# Altium footprint library 智能家居.PcbLib: 48 footprints (part 2 of 3)
Each footprint in its own frame and in the unit in brackets; x right, y up, seen from the top. Pads: shape width x height; smd on the part's side, far side on the other; paste and mask are expansions set on the pad; w line width, h text height; cw(c..) or ccw(c..) is an arc to the next point about the centre after c.
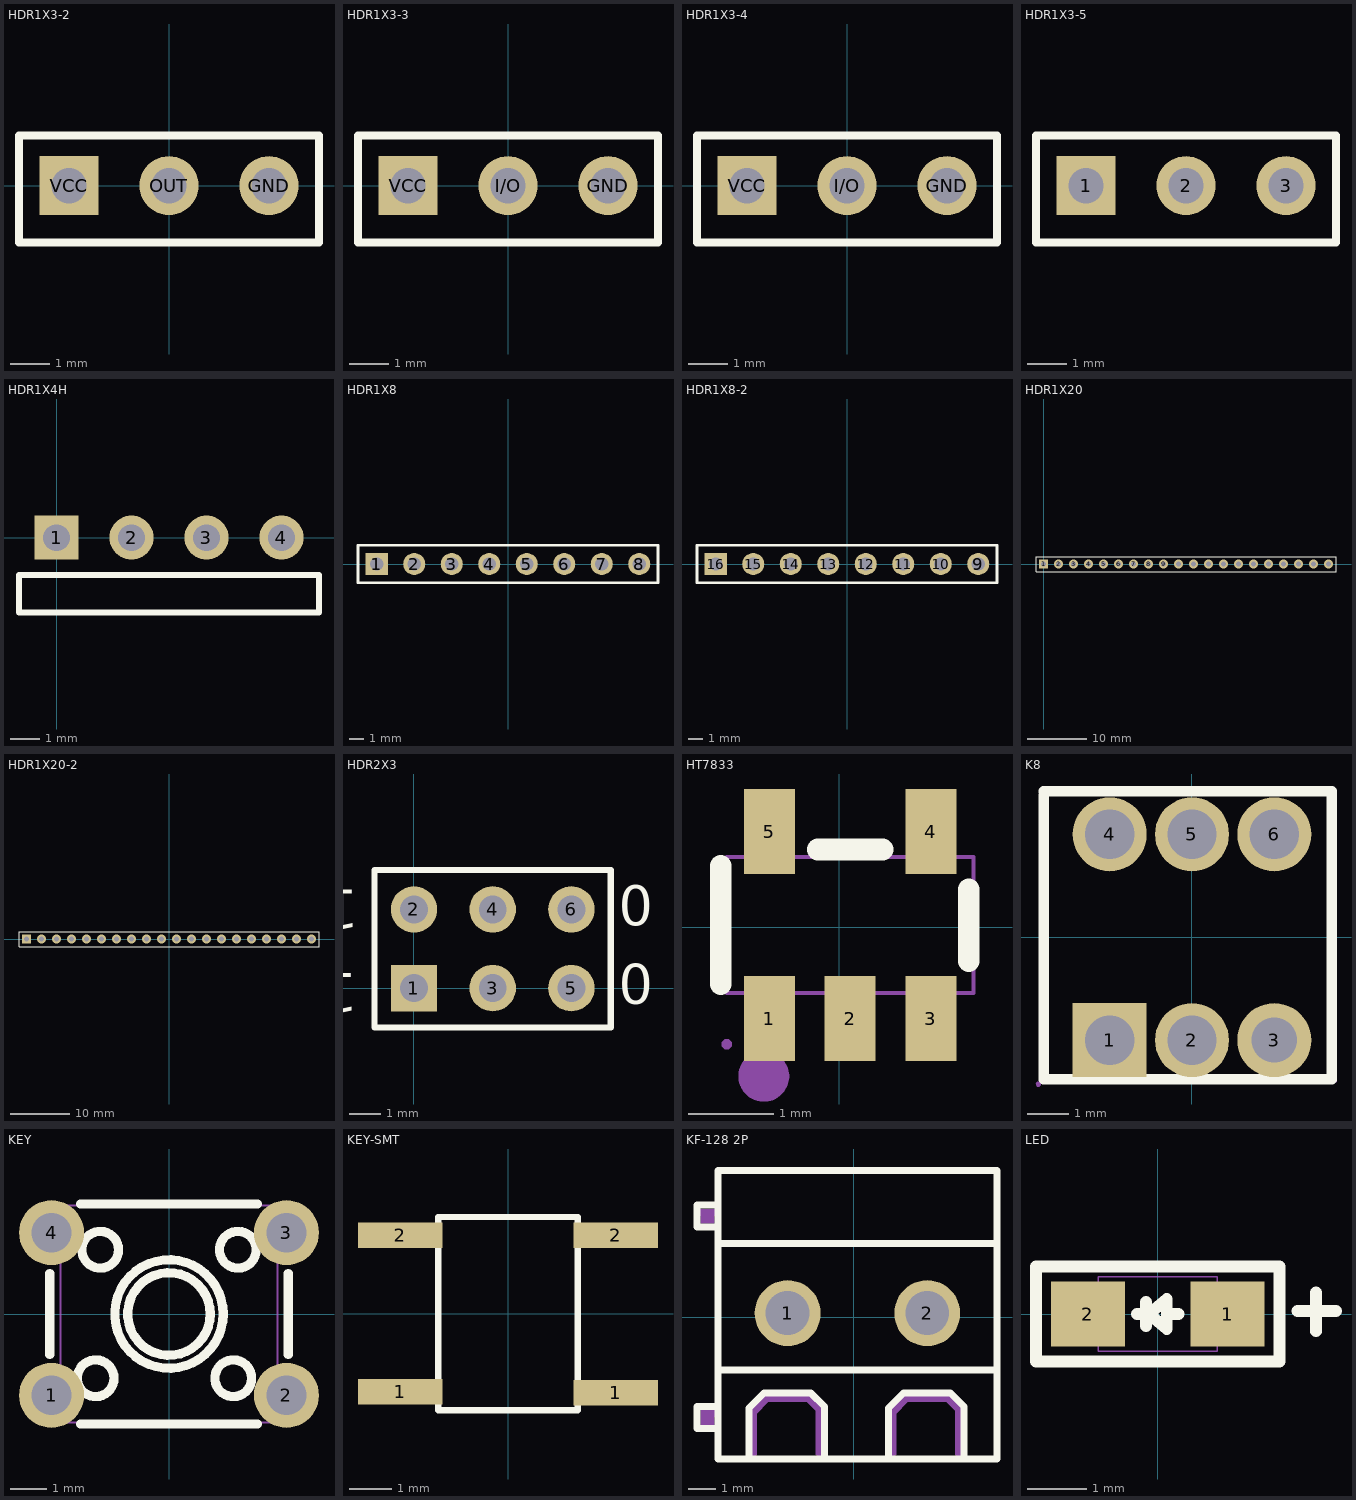
[diagram p1: the footprints below, top view; thin cyan lines are the x and y axes]

## HDR1X3-2 [mm]
pads (3):
  round 1.5 hole 0.9: GND(2.54,0) OUT(0,0)
  rect 1.5x1.5 hole 0.9: VCC(-2.54,0)
Top Overlay:
  lines w0.2: -3.81,-1.441 -3.81,1.27 3.81,1.27 3.81,-1.441 -3.81,-1.441

## HDR1X3-3 [mm]
pads (3):
  round 1.5 hole 0.9: GND(2.54,0) I/O(0,0)
  rect 1.5x1.5 hole 0.9: VCC(-2.54,0)
Top Overlay:
  lines w0.2: -3.81,-1.441 -3.81,1.27 3.81,1.27 3.81,-1.441 -3.81,-1.441

## HDR1X3-4 [mm]
pads (3):
  round 1.5 hole 0.9: GND(2.54,0) I/O(0,0)
  rect 1.5x1.5 hole 0.9: VCC(-2.54,0)
Top Overlay:
  lines w0.2: -3.81,-1.441 -3.81,1.27 3.81,1.27 3.81,-1.441 -3.81,-1.441

## HDR1X3-5 [mm]
pads (3):
  rect 1.5x1.5 hole 0.9: 1(-431.038,127.508)
  round 1.5 hole 0.9: 2(-428.498,127.508) 3(-425.958,127.508)
Top Overlay:
  lines w0.2: -432.308,126.067 -432.308,128.778 -424.688,128.778 -424.688,126.067 -432.308,126.067

## HDR1X4H [mm] "Connector; Header; 4 Position; Right Angle"
pads (4):
  rect 1.5x1.5 hole 0.9: 1(0,0)
  round 1.5 hole 0.9: 2(2.54,0) 3(5.08,0) 4(7.62,0)
Top Overlay:
  lines w0.2: -1.27,-2.54 8.89,-2.54 8.89,-1.27 -1.27,-1.27 -1.27,-2.54

## HDR1X8 [mm]
pads (8):
  rect 1.5x1.5 hole 0.9: 1(-8.89,0)
  round 1.5 hole 0.9: 2(-6.35,0) 3(-3.81,0) 4(-1.27,0) 5(1.27,0) 6(3.81,0) 7(6.35,0) 8(8.89,0)
Top Overlay:
  lines w0.2: -10.16,-1.27 -10.16,1.27 -8.255,1.27 10.16,1.27 10.16,-1.27 -10.16,-1.27

## HDR1X8-2 [mm]
pads (8):
  round 1.5 hole 0.9: 9(8.89,0) 10(6.35,0) 11(3.81,0) 12(1.27,0) 13(-1.27,0) 14(-3.81,0) 15(-6.35,0)
  rect 1.5x1.5 hole 0.9: 16(-8.89,0)
Top Overlay:
  lines w0.2: -10.16,-1.27 10.16,-1.27 10.16,1.27 -8.255,1.27 -10.16,1.27 -10.16,-1.27

## HDR1X20 [mm] "Connector; Header; 20 Position"
height 4.32
pads (20):
  rect 1.5x1.5 hole 0.9: 1(0,0)
  round 1.5 hole 0.9: 2(2.54,0) 3(5.08,0) 4(7.62,0) 5(10.16,0) 6(12.7,0) 7(15.24,0) 8(17.78,0) 9(20.32,0) 10(22.86,0) 11(25.4,0) 12(27.94,0) 13(30.48,0) 14(33.02,0) 15(35.56,0) 16(38.1,0) 17(40.64,0) 18(43.18,0) 19(45.72,0) 20(48.26,0)
Top Overlay:
  lines w0.2: -1.27,-1.27 49.53,-1.27 49.53,1.27 0.635,1.27 -1.27,1.27 -1.27,-1.27

## HDR1X20-2 [mm]
pads (20):
  rect 1.5x1.5 hole 0.9: 21(-24.13,0)
  round 1.5 hole 0.9: 22(-21.59,0) 23(-19.05,0) 24(-16.51,0) 25(-13.97,0) 26(-11.43,0) 27(-8.89,0) 28(-6.35,0) 29(-3.81,0) 30(-1.27,0) 31(1.27,0) 32(3.81,0) 33(6.35,0) 34(8.89,0) 35(11.43,0) 36(13.97,0) 37(16.51,0) 38(19.05,0) 39(21.59,0) 40(24.13,0)
Top Overlay:
  lines w0.2: -25.4,-1.27 25.4,-1.27 25.4,1.27 -23.495,1.27 -25.4,1.27 -25.4,-1.27

## HDR2X3 [mm] "Connector; Header; 3x2 Position"
height 4.32
pads (6):
  rect 1.5x1.5 hole 0.9: 1(0,0)
  round 1.5 hole 0.9: 2(0,2.54) 3(2.54,0) 4(2.54,2.54) 5(5.08,0) 6(5.08,2.54)
Top Overlay:
  lines w0.2: 1.482,-1.27 6.35,-1.27 ; 6.35,-1.27 -1.27,-1.27 -1.27,3.81 6.35,3.81 6.35,-1.27
  text "1" at -1.807,0.486 h1.27
  text "1" at -1.778,3.175 h1.27
  text "0" at 6.604,-0.508 h1.27
  text "0" at 6.604,2.032 h1.27

## HT7833 [mm]
pads (5):
  rect 0.6x1 smd paste+0 mask+0.05: 1(-0.823,-1.077) 2(0.127,-1.077) 3(1.077,-1.077) 4(1.077,1.123) 5(-0.823,1.123)
Top Overlay:
  lines w0.254: -1.397,-0.675 -1.397,0.722 ; -0.254,0.912 0.508,0.912 ; 1.524,-0.399 1.524,0.446
Mechanical 6:
  circle w0.3: c-0.889,-1.755 r0.15
Mechanical 15:
  region: -1.023,0.973 -1.023,1.423 -0.623,1.423 -0.623,0.973
  region: -1.023,0.813 -1.023,0.983 -0.623,0.983 -0.623,0.813
  region: 0.877,0.973 0.877,1.423 1.277,1.423 1.277,0.973
  region: 0.877,0.813 0.877,0.983 1.277,0.983 1.277,0.813
  region: -1.023,-1.377 -1.023,-0.927 -0.623,-0.927 -0.623,-1.377
  region: -1.023,-0.937 -1.023,-0.767 -0.623,-0.767 -0.623,-0.937
  region: 0.877,-1.377 0.877,-0.927 1.277,-0.927 1.277,-1.377
  region: 0.877,-0.937 0.877,-0.767 1.277,-0.767 1.277,-0.937
  region: -0.073,-1.377 -0.073,-0.927 0.327,-0.927 0.327,-1.377
  region: -0.073,-0.937 -0.073,-0.767 0.327,-0.767 0.327,-0.937
  region: -1.263,-1.377 -1.264,-1.352 -1.299,-1.318 -1.348,-1.318 -1.383,-1.352 -1.383,-1.377 -1.383,-1.401 -1.348,-1.436 -1.299,-1.436 -1.264,-1.401
  lines w0.051: -1.323,-0.777 1.577,-0.777 1.577,0.823 -1.323,0.823 -1.323,-0.777

## K8 [mm]
pads (6):
  rect 1.8x1.8 hole 1.2 paste+0 mask+0.05: 1(-2,-2.5)
  round 1.8 hole 1.2 paste+0 mask+0.05: 2(0,-2.5) 4(-2,2.5) 5(0,2.5) 6(2,2.5)
  round 1.8 hole 1.1 paste+0 mask+0.05: 3(2,-2.5)
Top Overlay:
  lines w0.254: -3.604,3.451 -3.604,-3.449 3.396,-3.449 3.396,3.551 -3.604,3.551
Mechanical 15:
  region: -3.671,-3.576 -3.671,-3.551 -3.706,-3.516 -3.756,-3.516 -3.791,-3.551 -3.791,-3.576 -3.791,-3.601 -3.756,-3.636 -3.706,-3.636 -3.671,-3.601
  region: -2.4,2.7 -1.6,2.7 -1.6,2.3 -2.4,2.3
  region: -0.4,2.7 0.4,2.7 0.4,2.3 -0.4,2.3
  region: 1.6,2.7 2.4,2.7 2.4,2.3 1.6,2.3
  region: 1.6,-2.3 2.4,-2.3 2.4,-2.7 1.6,-2.7
  region: -0.4,-2.3 0.4,-2.3 0.4,-2.7 -0.4,-2.7
  region: -2.4,-2.3 -1.6,-2.3 -1.6,-2.7 -2.4,-2.7
  lines w0.051: -3.5,-3.5 -3.5,3.5 3.5,3.5 3.5,-3.5 -3.5,-3.5

## KEY [mm]
pads (4):
  round 1.8 hole 1.1: 1(-3.251,-2.25) 2(3.251,-2.25) 3(3.251,2.25) 4(-3.251,2.25)
Top Overlay:
  circle w0.254: c-1.905,1.778 r0.508
  circle w0.254: c-2.032,-1.778 r0.508
  circle w0.254: c1.905,1.778 r0.508
  circle w0.254: c1.778,-1.778 r0.508
  circle w0.254: c0,0 r1.143
  circle w0.254: c0,0 r1.501
  lines w0.254: -3.302,-1.12 -3.302,1.12 ; -2.45,-3.048 2.45,-3.048 ; -2.45,3.048 2.45,3.048 ; 3.302,-1.12 3.302,1.12
Mechanical 15:
  region: -3.341,-3 -3.341,-2.975 -3.376,-2.94 -3.426,-2.94 -3.461,-2.975 -3.461,-3 -3.461,-3.025 -3.426,-3.06 -3.376,-3.06 -3.341,-3.025
  region: -3.401,2.6 -3.101,2.6 -3.101,1.9 -3.401,1.9
  region: -3.401,-1.9 -3.101,-1.9 -3.101,-2.6 -3.401,-2.6
  region: 3.101,-1.9 3.401,-1.9 3.401,-2.6 3.101,-2.6
  region: 3.101,2.6 3.401,2.6 3.401,1.9 3.101,1.9
  region: -3.401,1.9 -3.401,2.6 -2.994,2.6 -2.994,1.9
  region: -3.401,-2.601 -3.401,-1.901 -2.994,-1.901 -2.994,-2.601
  region: 3.401,-1.9 3.401,-2.6 2.994,-2.6 2.994,-1.9
  region: 3.401,2.601 3.401,1.901 2.994,1.901 2.994,2.601
  lines w0.051: -3,-3 3,-3 3,3 -3,3 -3,-3

## KEY-SMT [mm]
height 4.32
pads (4):
  rect 2x0.6 smd: 1(-2.55,-1.85) 1(2.55,-1.87) 2(-2.55,1.85) 2(2.55,1.85)
Top Overlay:
  lines w0.152: -1.651,-2.286 1.651,-2.286 1.651,2.286 -1.651,2.286 -1.651,-2.286

## KF-128 2P [mm]
pads (2):
  round 2.4 hole 1.6: 1(-2.413,0.153) 2(2.667,0.153)
Top Overlay:
  lines w0.254: -4.953,-4.038 -5.715,-4.038 -5.715,-3.24 -4.953,-3.24 ; -4.953,-1.92 5.207,-1.92 ; -4.953,2.69 5.207,2.69 ; -4.953,3.292 -5.715,3.292 -5.715,4.09 -4.953,4.09 ; -3.823,-5.147 -3.823,-3.297 -3.273,-2.747 -1.573,-2.747 -1.073,-3.247 -1.073,-5.147 ; 1.257,-5.147 1.257,-3.297 1.807,-2.747 3.507,-2.747 4.007,-3.247 4.007,-5.147 ; -4.953,-5.147 5.207,-5.147 5.207,5.353 -4.953,5.353 -4.953,-5.147
Mechanical 6:
  region: -5.073,3.943 -5.593,3.943 -5.583,3.433 -5.093,3.413
  region: -5.073,-3.377 -5.583,-3.377 -5.583,-3.907 -5.093,-3.907
  region: -3.8,-4.947 -3.8,-3.447 -3.8,-3.434 -3.795,-3.41 -3.786,-3.387 -3.772,-3.366 -3.763,-3.357 -3.263,-2.857 -3.254,-2.848 -3.233,-2.834 -3.21,-2.825 -3.186,-2.82 -3.173,-2.82 -1.673,-2.82 -1.661,-2.82 -1.636,-2.825 -1.613,-2.834 -1.592,-2.848 -1.583,-2.857 -1.183,-3.257 -1.174,-3.266 -1.16,-3.287 -1.151,-3.31 -1.146,-3.334 -1.146,-3.347 -1.146,-4.947 -1.146,-5 -1.22,-5.074 -1.326,-5.074 -1.4,-5 -1.4,-4.947 -1.4,-3.4 -1.726,-3.074 -3.12,-3.074 -3.546,-3.5 -3.546,-4.947 -3.546,-5 -3.62,-5.074 -3.726,-5.074 -3.8,-5
  region: 1.28,-4.947 1.28,-3.447 1.28,-3.434 1.285,-3.41 1.294,-3.387 1.308,-3.366 1.317,-3.357 1.817,-2.857 1.826,-2.848 1.847,-2.834 1.87,-2.825 1.894,-2.82 1.907,-2.82 3.407,-2.82 3.419,-2.82 3.444,-2.825 3.467,-2.834 3.488,-2.848 3.497,-2.857 3.897,-3.257 3.906,-3.266 3.92,-3.287 3.929,-3.31 3.934,-3.334 3.934,-3.347 3.934,-4.947 3.934,-5 3.86,-5.074 3.754,-5.074 3.68,-5 3.68,-4.947 3.68,-3.4 3.354,-3.074 1.96,-3.074 1.534,-3.5 1.534,-4.947 1.534,-5 1.46,-5.074 1.354,-5.074 1.28,-5
Mechanical 15:
  region: -4.893,-5.147 -4.894,-5.123 -4.929,-5.089 -4.977,-5.09 -5.012,-5.123 -5.013,-5.147 -5.012,-5.171 -4.977,-5.205 -4.929,-5.205 -4.894,-5.171
  region: 2.217,-0.247 2.217,0.553 3.117,0.553 3.117,-0.247
  region: -2.863,-0.247 -2.863,0.553 -1.963,0.553 -1.963,-0.247
  lines w0.051: -4.953,-5.147 5.207,-5.147 5.207,5.453 -4.953,5.453 -4.953,-5.147

## LED [mil]
height 170.08
pads (2):
  rect 49x43 smd: 1(46.26,0) 2(-46.26,0)
Top Overlay:
  lines w7.87: -13.78,0 -5.91,0 ; -7.87,-7.87 -7.87,7.87 ; 5.91,0 13.78,0 ; 92.52,1.97 118.11,1.97 ; 104.75,-11.44 104.75,14.15 ; -5.91,0 5.91,9.84 5.91,-9.84 -5.91,0 ; -80.71,-31.5 80.71,-31.5 80.71,31.5 -80.71,31.5 -80.71,-31.5
Mechanical 8:
  lines w1: -39.37,-24.61 39.37,-24.61 39.37,24.61 -39.37,24.61 -39.37,-24.61